# EAGLE library part MAX11208BEUBT (library MAX11208BEUBT)
Check availability <https://pricing.snapeda.com/parts/MAX11208BEUB%2B/Analog%20Devices/view-part?ref=eda>
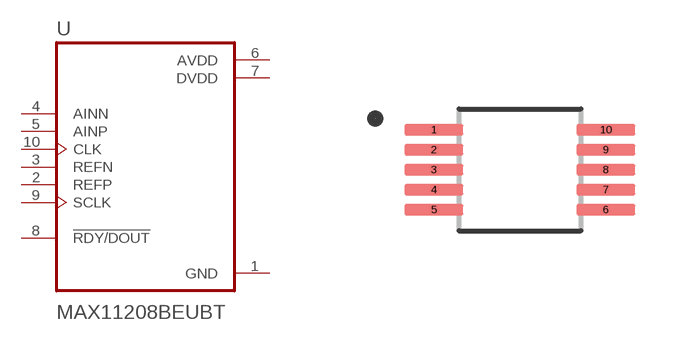
[diagram p0: symbol with the pads of SOP50P490X110-10N; footprint SOP50P490X110-10N]

Designator prefix U

## MAX11208BEUBT (Availability: In Stock; Description: 20-Bit, Single-Channel, Ultra-Low-Power, Delta-Sigma ADC with 2-Wire Serial Interface; MF: Analog Devices; MP: MAX11208BEUB+; Package: MICROMAX-10 Maxim; Price: None; Purchase-URL: https://pricing.snapeda.com/search/part/MAX11208BEUB+/?ref=eda)  [SOP50P490X110-10N]
1  GND  pwr
2  REFP  in
3  REFN  in
4  AINN  in
5  AINP  in
6  AVDD  pwr
7  DVDD  pwr
8  !RDY/DOUT
9  SCLK  in
10  CLK  in

## Footprint SOP50P490X110-10N (pad centres in mm)
smd 1.47 x 0.28: 1 -2.15,1; 2 -2.15,0.5; 3 -2.15,0; 4 -2.15,-0.5; 5 -2.15,-1; 6 2.15,-1; 7 2.15,-0.5; 8 2.15,0; 9 2.15,0.5; 10 2.15,1